# Altium schematic symbol library DISPLAY.SchLib: 1 symbol
Pins are listed as number, name and electrical type; pins without a type are passive.

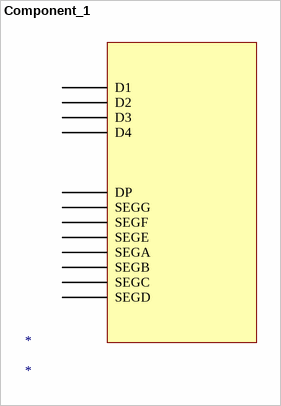
[diagram p0: symbol Component_1]

## Component_1
designator *
pins: D1, D2, D3, D4, DP, SEGA, SEGB, SEGC, SEGD, SEGE, SEGF, SEGG